# Altium schematic symbol library bq24715.SchLib: 1 symbol
Pins are listed as number, name and electrical type; pins without a type are passive.

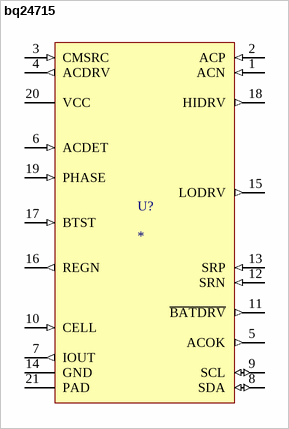
[diagram p0: symbol bq24715]

## bq24715
designator U?
pins: 1 ACN (in), 2 ACP (in), 3 CMSRC (in), 4 ACDRV (out), 5 ACOK (out), 6 ACDET (in), 7 IOUT (out), 8 SDA (io), 9 SCL (io), 10 CELL (in), 11 ~{BATDRV} (out), 12 SRN (in), 13 SRP (in), 14 GND (power), 15 LODRV (out), 16 REGN (out), 17 BTST (in), 18 HIDRV (out), 19 PHASE (in), 20 VCC (power), 21 PAD (power)